# EAGLE library part TRINKET_PRO (library workoutAid)
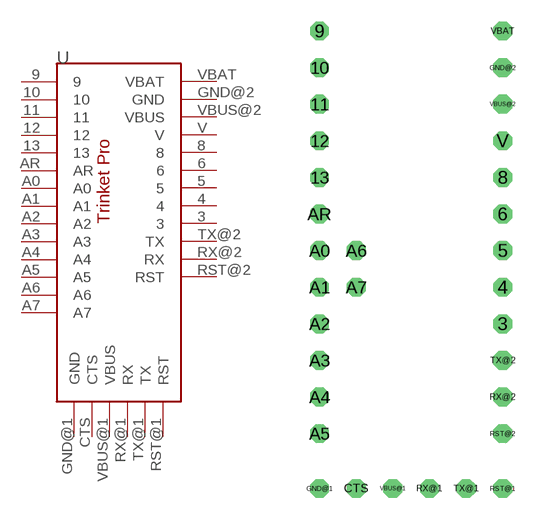
[diagram p0: symbol with the pads of TRINKET_PRO; footprint TRINKET_PRO]

Designator prefix -

## TRINKET_PRO  [TRINKET_PRO]
3  3
4  4
5  5
6  6
8  8
9  9
10  10
11  11
12  12
13  13
A0  A0
A1  A1
A2  A2
A3  A3
A4  A4
A5  A5
A6  A6
A7  A7
AR  AR
CTS  CTS
GND@1  GND
GND@2  GND
RST@1  RST
RST@2  RST
RX@1  RX
RX@2  RX
TX@1  TX
TX@2  TX
V  V
VBAT  VBAT
VBUS@1  VBUS
VBUS@2  VBUS

## Footprint TRINKET_PRO (pad centres in mm)
drill 0.8 octagon: 3 6.35,-5.08; 4 6.35,-2.54; 5 6.35,0; 6 6.35,2.54; 8 6.35,5.08; 9 -6.35,15.24; 10 -6.35,12.7; 11 -6.35,10.16; 12 -6.35,7.62; 13 -6.35,5.08; A0 -6.35,0; A1 -6.35,-2.54; A2 -6.35,-5.08; A3 -6.35,-7.62; A4 -6.35,-10.16; A5 -6.35,-12.7; A6 -3.81,0; A7 -3.81,-2.54; AR -6.35,2.54; CTS -3.81,-16.51; GND@1 -6.35,-16.51; GND@2 6.35,12.7; RST@1 6.35,-16.51; RST@2 6.35,-12.7; RX@1 1.27,-16.51; RX@2 6.35,-10.16; TX@1 3.81,-16.51; TX@2 6.35,-7.62; V 6.35,7.62; VBAT 6.35,15.24; VBUS@1 -1.27,-16.51; VBUS@2 6.35,10.16